# EAGLE library part LCM-S01602DTR (library machine_science)
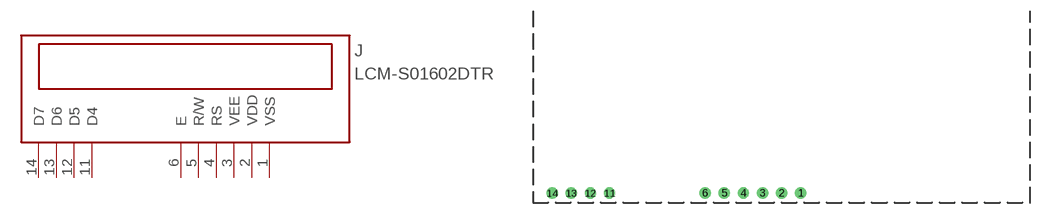
[diagram p2: symbol with the pads of LCD_XS; footprint LCD_XS]

Designator prefix J

## LCM-S01602DTR  [LCD_XS]
1  VSS  pwr
2  VDD  pwr
3  VEE  pwr
4  RS  pas
5  R/W  pas
6  E
11  D4
12  D5
13  D6
14  D7

## Footprint LCD_XS (pad centres in mm)
drill 0.991 round: 1 8.89,-12.7; 2 6.35,-12.7; 3 3.81,-12.7; 4 1.27,-12.7; 5 -1.27,-12.7; 6 -3.81,-12.7; 11 -16.51,-12.7; 12 -19.05,-12.7; 13 -21.59,-12.7; 14 -24.13,-12.7